# EAGLE library part M51957B (library SPEC_v48)
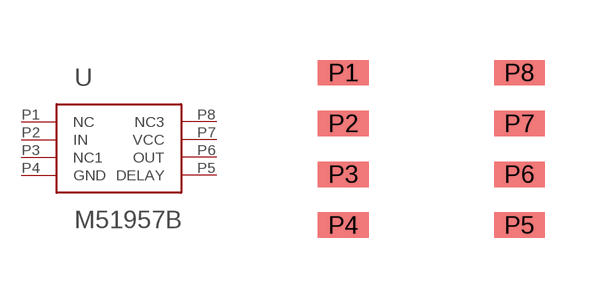
[diagram p8: symbol with the pads of M51957B; footprint M51957B]

Designator prefix -

## M51957B  [M51957B]
P1  NC
P2  IN
P3  NC1
P4  GND
P5  DELAY
P6  OUT
P7  VCC
P8  NC3

## Footprint M51957B (pad centres in mm)
smd 1.27 x 0.635: P1 0,0; P2 0,-1.27; P3 0,-2.54; P4 0,-3.81; P5 4.4,-3.81; P6 4.4,-2.54; P7 4.4,-1.27; P8 4.4,0